# Altium schematic symbol library DCDCConverter.SchLib: 11 symbols
Pins are listed as number, name and electrical type; pins without a type are passive.

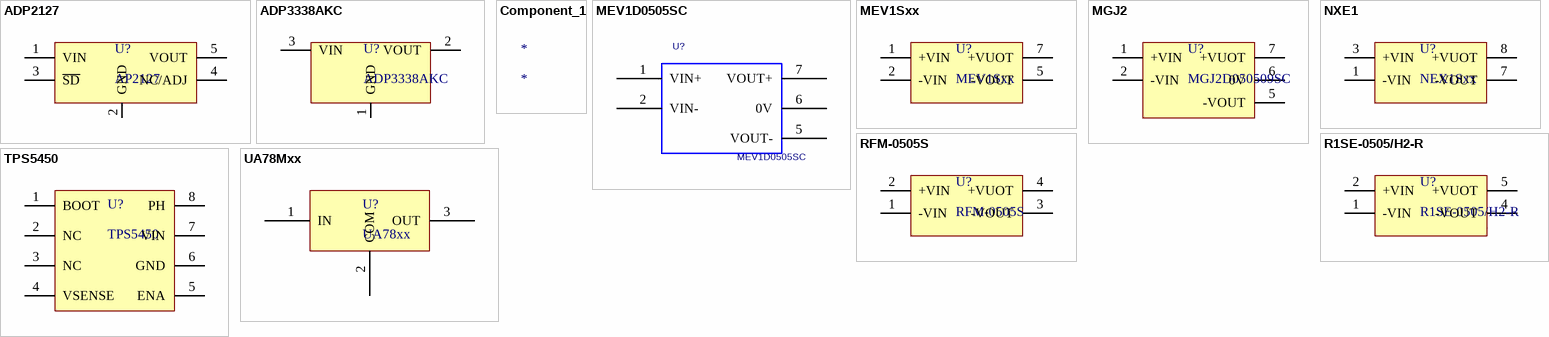
[diagram p0: symbols ADP2127 to UA78Mxx]

## ADP2127
designator U?, comment AP2127
footprint SOT95P245X110-5N (SOT23, 5-Leads, Body 2.90x2.45mm, Pitch 0.95mm, IPC Medium Density)
pins: 1 VIN, 2 GND, 3 ~{SD}, 4 NC/ADJ, 5 VOUT

## ADP3338AKC
designator U?
Manufacturer: Analog Devices; ModelNumber: *
footprint SOT230P700X180-4N (SOT223, 4-Leads, Body 6.50x7.00mm (avg), Pitch 2.30mm, IPC Medium Density)
pins: 1 GND, 2 VOUT, 3 VIN

## Component_1
designator *

## MEV1D0505SC
designator U?
Manufacturer: Murata; ModelNumber: MEV1D0505SC
footprint MEV1D (Dual output)
pins: 1 VIN+, 2 VIN-, 5 VOUT-, 6 0V, 7 VOUT+

## MEV1Sxx
designator U?
3kVDC Isolated 1W Single & Dual Output DC-DC Converters; Manufacturer: Murata; ModelNumber: MEV1S
footprint MEV1S
pins: 1 +VIN, 2 -VIN, 5 -VOUT, 7 +VUOT

## MGJ2
designator U?, comment MGJ2D050509SC
footprint MGJ2Dxx
pins: 1 +VIN, 2 -VIN, 5 -VOUT, 6 0V, 7 +VUOT

## NXE1
designator U?, comment NEX1Sxx
3kVDC Isolated 1W Single & Output DC-DC Converters; Manufacturer: Murata; Part Number: MEV1S
footprint NEX1 (Murata Power-Isolated 1W Single Output SM DC-DC Converters)
pins: 1 -VIN, 3 +VIN, 7 -VOUT, 8 +VUOT

## R1SE-0505/H2-R
designator U?
footprint R1SE-0505-SO8 (SO, 8-Leads, Body 12.75x10.70mm, Pitch 2.54mm, IPC Medium Density)
pins: 1 -VIN, 2 +VIN, 4 -VOUT, 5 +VUOT, 8 NC

## RFM-0505S
designator U?
footprint RFM-0505S
pins: 1 -VIN, 2 +VIN, 3 -VOUT, 4 +VUOT

## TPS5450
designator U?
footprint SOIC127P600X175-8N - TPAD (SOIC, 8-Leads, Body 4.90x3.90mm, Pitch 1.27mm, IPC Medium Density)
pins: 1 BOOT, 2 NC, 3 NC, 4 VSENSE, 5 ENA, 6 GND, 7 VIN, 8 PH

## UA78Mxx
designator U?, comment UA78xx
footprint SOT230P700X180-4N (SOT223, 4-Leads, Body 6.50x7.00mm (avg), Pitch 2.30mm, IPC Medium Density)
pins: 1 IN, 2 COM, 3 OUT